# EAGLE library part CC2520 (library chips)
2.4 GHZ IEEE 802.15.4/ZIGBEE® RF TRANSCEIVER
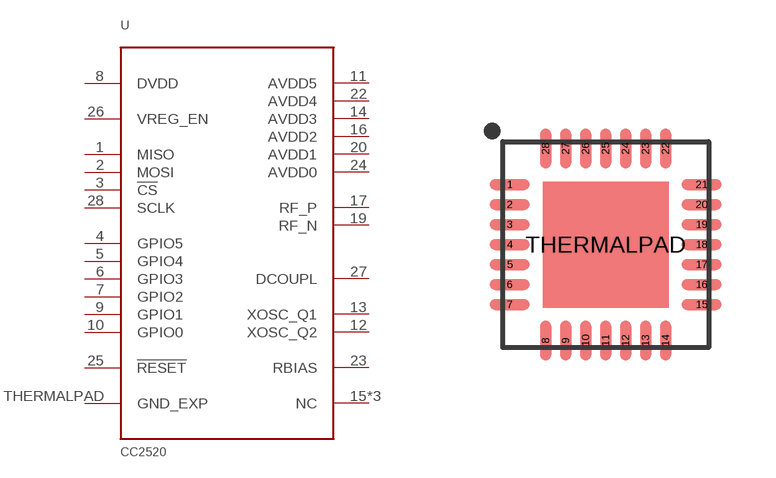
[diagram p1: symbol with the pads of S-PVQFN-N28; footprint S-PVQFN-N28]

Designator prefix U

## CC2520 (DIGIKEY: 296-22996-1-ND)  [S-PVQFN-N28]
1  MISO
2  MOSI
3  !CS
4  GPIO5
5  GPIO4
6  GPIO3
7  GPIO2
8  DVDD
9  GPIO1
10  GPIO0
11  AVDD5
12  XOSC_Q2
13  XOSC_Q1
14  AVDD3
15  NC
16  AVDD2
17  RF_P
18  NC
19  RF_N
20  AVDD1
21  NC
22  AVDD4
23  RBIAS
24  AVDD0
25  !RESET
26  VREG_EN
27  DCOUPL
28  SCLK
THERMALPAD  GND_EXP

## Footprint S-PVQFN-N28 (pad centres in mm)
5 x 5 mm QFN28 (RHD)
smd 1 x 0.28: 1 -2.4,1.5; 2 -2.4,1; 3 -2.4,0.5; 4 -2.4,0; 5 -2.4,-0.5; 6 -2.4,-1; 7 -2.4,-1.5; 15 2.4,-1.5; 16 2.4,-1; 17 2.4,-0.5; 18 2.4,0; 19 2.4,0.5; 20 2.4,1; 21 2.4,1.5
smd 0.28 x 1: 8 -1.5,-2.4; 9 -1,-2.4; 10 -0.5,-2.4; 11 0,-2.4; 12 0.5,-2.4; 13 1,-2.4; 14 1.5,-2.4; 22 1.5,2.4; 23 1,2.4; 24 0.5,2.4; 25 0,2.4; 26 -0.5,2.4; 27 -1,2.4; 28 -1.5,2.4
smd 3.15 x 3.15: THERMALPAD 0,0